# EAGLE library part LT3028 (library PowerProducts)
LT-Spice library generated with : ltspice.ulp from: E:/Programme/LTC/LTspiceIV/lib/sym/PowerProducts/LT3029*.asy at 05.10.2012 11:03:15
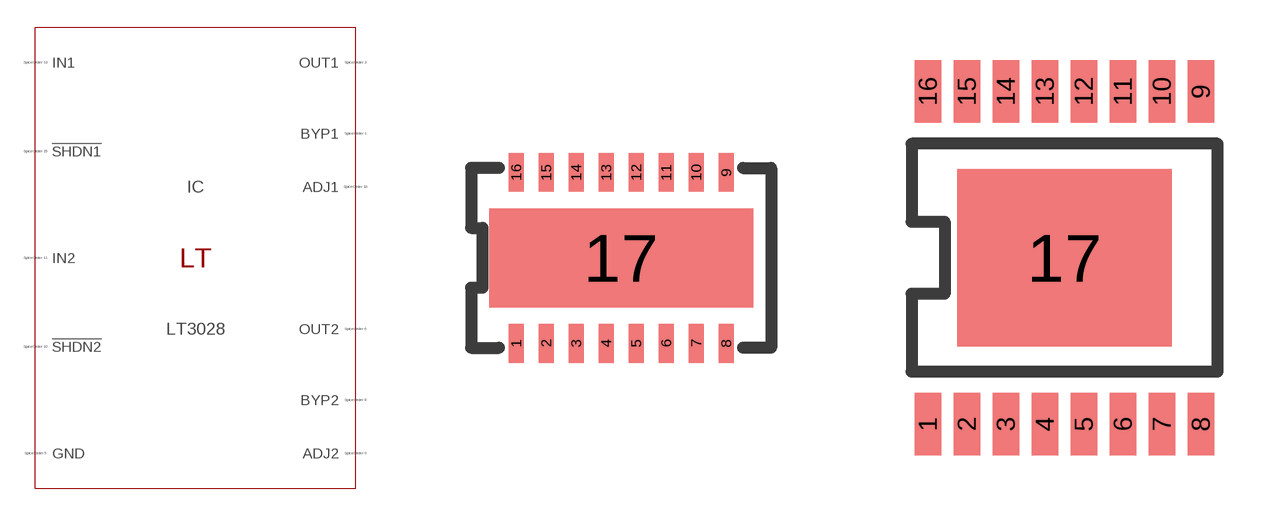
[diagram p25: symbol with the pads of DFN16(DHC); footprints DFN16(DHC), TSSOP16BB(FE)]

Designator prefix IC

## LT3028 (SPICEMODEL: LT1762.lib; SPICEPREFIX: X; VALUE2: LT1762)  [DFN16(DHC)]
1  GND  pas
2  BYP1  pas
3  OUT1  pas
4  OUT1  pas
5  GND  pas
6  OUT2  pas
7  BYP2  pas
8  GND  pas
9  GND  pas
10  ADJ2  pas
11  !SHDN2  pas
12  IN2  pas
13  IN1  pas
14  !SHDN1  pas
15  ADJ1  pas
16  GND  pas
17  GND  pas

## LT3028FE (SPICEMODEL: LT1762.lib; SPICEPREFIX: X; VALUE2: LT1762)  [TSSOP16BB(FE)]
1  BYP1  pas
3  OUT1  pas
4  OUT1  pas
5  GND  pas
6  OUT2  pas
7  OUT2  pas
8  BYP2  pas
9  ADJ2  pas
10  !SHDN2  pas
11  IN2  pas
12  IN2  pas
13  IN1  pas
14  IN1  pas
15  !SHDN1  pas
16  ADJ1  pas
17  GND  pas

## Footprint DFN16(DHC) (pad centres in mm)
Package generated from: DFN16(DHC).asc (!PADS-POWERPCB-V5.0-BASIC! DESIGN DATABASE ASCII FILE 1.0) with :import-pads-powerpcb-v5.ulp Version 1.0.1 at 04.10.2012 14:11:17
smd 0.375 x 0.975: 1 -2.625,-2.138; 2 -1.875,-2.138; 3 -1.125,-2.138; 4 -0.375,-2.138; 5 0.375,-2.138; 6 1.125,-2.138; 7 1.875,-2.138; 8 2.625,-2.138; 9 2.625,2.138; 10 1.875,2.138; 11 1.125,2.138; 12 0.375,2.138; 13 -0.375,2.138; 14 -1.125,2.138; 15 -1.875,2.138; 16 -2.625,2.138
smd 6.6 x 2.475: 17 0,0

## Footprint TSSOP16BB(FE) (pad centres in mm)
Package generated from: TSSOP16BB(FE).asc (!PADS-POWERPCB-V5.0-BASIC! DESIGN DATABASE ASCII FILE 1.0) with :import-pads-powerpcb-v5.ulp Version 1.0.1 at 04.10.2012 14:11:39
smd 0.66 x 1.575: 1 -3.413,-4.162; 2 -2.438,-4.162; 3 -1.462,-4.162; 4 -0.487,-4.162; 5 0.487,-4.162; 6 1.462,-4.162; 7 2.438,-4.162; 8 3.413,-4.162; 9 3.413,4.162; 10 2.438,4.162; 11 1.462,4.162; 12 0.487,4.162; 13 -0.487,4.162; 14 -1.462,4.162; 15 -2.438,4.162; 16 -3.413,4.162
smd 5.37 x 4.425: 17 0,0